# Altium schematic symbol library CRCW040252K3FKED.SchLib: 1 symbol
Pins are listed as number, name and electrical type; pins without a type are passive.

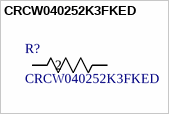
[diagram p0: symbol CRCW040252K3FKED]

## CRCW040252K3FKED
designator R?
D10/CRCW0402 100 52K3 1% ET7 e3; Manufacturer_Name: Vishay; Copyright: Copyright (C) 2026 Ultra Librarian. All rights reserved.; Manufacturer_Part_Number: CRCW040252K3FKED
footprint RES_CRCW_0402
pins: 1, 2